# EAGLE library part AMP_6368011-3 (library Traficon)
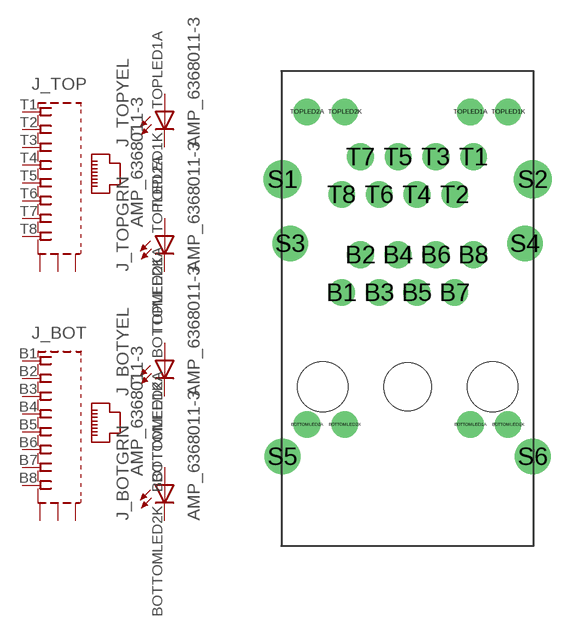
[diagram p198: symbol with the pads of STACKED_RJ45_W_LEDS; footprint STACKED_RJ45_W_LEDS]

Designator prefix J; gates _TOP=JACK8SH_3PE _BOT=JACK8SH_3PE _TOPYEL=LED _TOPGRN=LED _BOTYEL=LED _BOTGRN=LED

## AMP_6368011-3  [STACKED_RJ45_W_LEDS]
B1  _BOT:1  pas
B2  _BOT:2  pas
B3  _BOT:3  pas
B4  _BOT:4  pas
B5  _BOT:5  pas
B6  _BOT:6  pas
B7  _BOT:7  pas
B8  _BOT:8  pas
BOTTOMLED1A  _BOTYEL:A  pas
BOTTOMLED1K  _BOTYEL:C  pas
BOTTOMLED2A  _BOTGRN:A  pas
BOTTOMLED2K  _BOTGRN:C  pas
S1  _BOT:S1  pas
S2  _BOT:S2  pas
S3  _BOT:S3  pas
S4  _TOP:S1  pas
S5  _TOP:S2  pas
S6  _TOP:S3  pas
T1  _TOP:1  pas
T2  _TOP:2  pas
T3  _TOP:3  pas
T4  _TOP:4  pas
T5  _TOP:5  pas
T6  _TOP:6  pas
T7  _TOP:7  pas
T8  _TOP:8  pas
TOPLED1A  _TOPYEL:A  pas
TOPLED1K  _TOPYEL:C  pas
TOPLED2A  _TOPGRN:A  pas
TOPLED2K  _TOPGRN:C  pas

## Footprint STACKED_RJ45_W_LEDS (pad centres in mm)
CT: 24/10/2008: added central hole for compatibility with RIA-XMultiple-Pulse second sources.
drill 1.2 round: B1 1.265,6.35; B2 2.535,8.89; B3 3.805,6.35; B4 5.075,8.89; B5 6.345,6.35; B6 7.615,8.89; B7 8.885,6.35; B8 10.155,8.89; BOTTOMLED1A 9.95,-2.54; BOTTOMLED1K 12.49,-2.54; BOTTOMLED2A -1.06,-2.54; BOTTOMLED2K 1.48,-2.54; T1 10.155,15.49; T2 8.885,12.95; T3 7.615,15.49; T4 6.345,12.95; T5 5.075,15.49; T6 3.805,12.95; T7 2.535,15.49; T8 1.265,12.95; TOPLED1A 9.95,18.51; TOPLED1K 12.49,18.51; TOPLED2A -1.06,18.51; TOPLED2K 1.48,18.51
drill 1.7 round: S1 -2.72,13.971; S2 14.15,13.971
drill 1.6 round: S3 -2.2,9.65; S4 13.63,9.65; S5 -2.72,-4.698; S6 14.15,-4.698
hole 3.4 at 0,0
hole 3.4 at 11.43,0
hole 3.2 at 5.71,0